# Altium footprint library C.PcbLib: 29 footprints (part 1 of 2)
Each footprint in its own frame and in the unit in brackets; x right, y up, seen from the top. Pads: shape width x height; smd on the part's side, far side on the other; paste and mask are expansions set on the pad; w line width, h text height; cw(c..) or ccw(c..) is an arc to the next point about the centre after c.
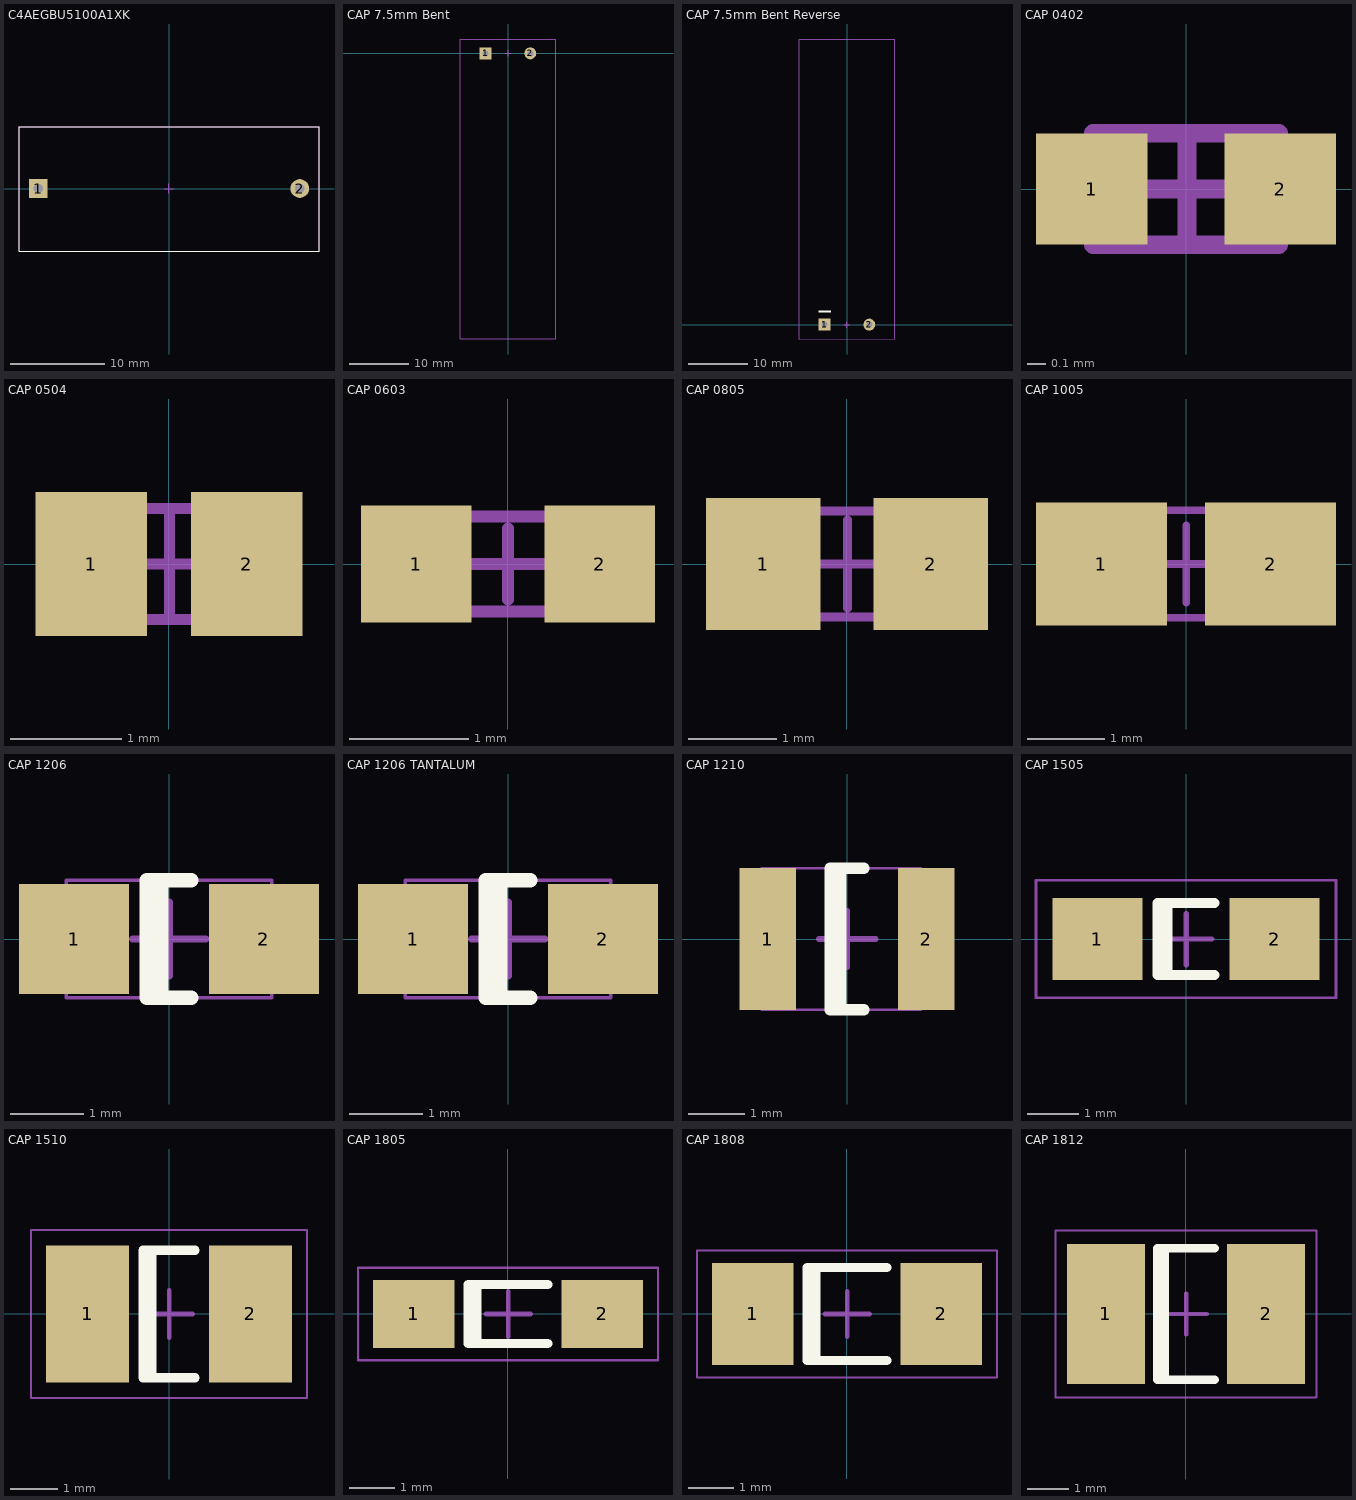
[diagram p0: the footprints below, top view; thin cyan lines are the x and y axes]

## C4AEGBU5100A1XK [mm] "Electrolytic Capacitor, 7.5mm Lead Spacing, 0.6mm Holes"
height 3.18
pads (2):
  rect 2x2 hole 1: 1(-13.95,0)
  round 2 hole 1: 2(13.95,0)
Top Overlay:
  lines w0.05: -16,-6.7 16,-6.7 16,6.6 -16,6.6 -16,-6.7
Mechanical 3:
  text ".Designator" at 0.4,0.5 h0.5
Mechanical 15:
  lines w0.05: -16,-6.7 16,-6.7 16,6.6 -16,6.6 -16,-6.7
  lines w0.1: -0.506,0 0.494,0 ; -0.006,-0.5 -0.006,0.5
3D body "C4AEGBU5100A1XK.step": height 25.2, standoff -4, extent -16,-6.7 16,6.605

## CAP 7.5mm Bent [mm] "Electrolytic Capacitor, 7.5mm Lead Spacing, 0.6mm Holes"
height 3.18
pads (2):
  rect 2x2 hole 1: 1(-3.75,0)
  round 2 hole 1: 2(3.75,0)
Mechanical 3:
  text ".Designator" at -4.699,2.794 h0.5
Mechanical 15:
  lines w0.05: -8,-48 -8,2.413 8,2.413 8,-48 -8,-48
  lines w0.1: -0.495,0 0.505,0 ; 0.005,-0.5 0.005,0.5
3D body "800ELL122MM40S.step": height 18, standoff -1.05, extent -8,-45 8,0.611

## CAP 7.5mm Bent Reverse [mm] "Electrolytic Capacitor, 7.5mm Lead Spacing, 0.6mm Holes"
height 3.18
pads (2):
  rect 2x2 hole 1: 1(-3.75,0)
  round 2 hole 1: 2(3.75,0)
Top Overlay:
  rectangle: -4.8,2 -2.7,2.4
Mechanical 3:
  text ".Designator" at 4.699,-2.794 h0.5
Mechanical 15:
  lines w0.05: -8,-2.413 8,-2.413 8,48 -8,48 -8,-2.413
  lines w0.1: -0.506,0 0.494,0 ; -0.006,-0.5 -0.006,0.5
3D body "800ELL122MM40S.step": height 18, standoff -1.05, extent -8,-0.611 8,45

## CAP 0402 [mm] "Chip Capacitor; Body 1.0 x 0.5 mm (LxW typ)"
height 0.6
pads (2):
  rect 0.6x0.6 smd: 1(-0.508,0) 2(0.508,0)
Mechanical 3:
  text ".Designator" at -0.8,0.5 h0.5
Mechanical 15:
  lines w0.1: -0.254,0 0.254,0 ; 0.005,-0.254 0.005,0.254 ; -0.5,-0.3 0.5,-0.3 0.5,0.3 -0.5,0.3 -0.5,-0.3
3D body "CAP0402.stp": height 0.2, standoff 0, extent -0.5,-0.3 0.5,0.3

## CAP 0504 [mm] "Chip Capacitor; Body 1.2 x 1.0 mm (LxW typ)"
height 1.02
pads (2):
  rect 1x1.3 smd: 1(-0.7,0) 2(0.7,0)
Mechanical 3:
  text ".Designator" at -1.1,0.9 h0.5
Mechanical 15:
  lines w0.1: -0.495,0 0.505,0 ; 0.005,-0.5 0.005,0.5 ; -0.7,-0.5 -0.7,0.5 0.7,0.5 0.7,-0.5 -0.7,-0.5
3D body: height 1, standoff 0, extent -1.016,-0.508 -0.635,0.508
3D body: height 1, standoff 0, extent -0.635,-0.508 0.65,0.508
3D body: height 1, standoff 0, extent 0.612,-0.508 1.016,0.508

## CAP 0603 [mm] "Chip Capacitor; Body 1.6 x 0.8 mm (LxW typ)"
height 0.85
pads (2):
  rect 0.93x0.98 smd: 1(-0.77,0) 2(0.77,0)
Mechanical 3:
  text ".designator" at -1.2,0.7 h0.5
Mechanical 15:
  lines w0.1: -0.381,0 0.381,0 ; 0,-0.3 0,0.3 ; -0.77,-0.4 0.77,-0.4 0.77,0.4 -0.77,0.4 -0.77,-0.4
3D body "CAP0603.stp": height 0.3, standoff 0, extent -0.8,-0.4 0.8,0.4

## CAP 0805 [mm] "Chip Capacitor; Body 2.0 x 1.2 mm (LxW typ)"
height 1.1
pads (2):
  rect 1.3x1.5 smd: 1(-0.95,0) 2(0.95,0)
Mechanical 3:
  text ".Designator" at -1.1,0.9 h0.5
Mechanical 15:
  lines w0.1: -0.495,0 0.505,0 ; 0.005,-0.5 0.005,0.5 ; -1,-0.6 -1,0.6 1,0.6 1,-0.6 -1,-0.6
3D body "CAP0805.stp": height 0.78, standoff 0, extent -1.05,-0.625 0.95,0.625

## CAP 1005 [mm] "Chip Capacitor; Body 2.54 x 1.27 mm (LxW typ)"
height 1.66
pads (2):
  rect 1.7x1.6 smd: 1(-1.1,0) 2(1.1,0)
Mechanical 3:
  text ".Designator" at -1.84,1.097 h0.5
Mechanical 15:
  lines w0.1: -0.495,0 0.505,0 ; 0.005,-0.5 0.005,0.5 ; -1.2,-0.7 1.2,-0.7 1.2,0.7 -1.2,0.7 -1.2,-0.7
3D body: height 1, standoff 0, extent 1.016,-0.635 1.651,0.635
3D body: height 1, standoff 0, extent -1.1,-0.635 1.016,0.635
3D body: height 1, standoff 0, extent -1.651,-0.635 -1.1,0.635

## CAP 1206 [mm] "Chip Capacitor; Body 3.2 x 1.6 mm (LxW typ)"
height 1.35
pads (2):
  rect 1.5x1.5 smd: 1(-1.295,0) 2(1.295,0)
Top Overlay:
  lines w0.2: -0.11,-0.8 -0.11,0.8 ; 0.3,-0.8 -0.3,-0.8 -0.3,0.8 0.3,0.8
Mechanical 3:
  text ".Designator" at -2.54,1.524 h0.5
Mechanical 15:
  lines w0.05: -1.4,-0.8 -1.4,0.8 1.4,0.8 1.4,-0.8 -1.4,-0.8
  lines w0.1: -0.495,0 0.505,0 ; 0.005,-0.5 0.005,0.5
3D body "CAP1206.stp": height 1, standoff 0, extent -1.6,-0.8 1.6,0.8

## CAP 1206 TANTALUM [mm] "Chip Capacitor; Body 3.2 x 1.6 mm (LxW typ)"
height 1.35
pads (2):
  rect 1.5x1.5 smd: 1(-1.295,0) 2(1.295,0)
Top Overlay:
  lines w0.2: -0.11,-0.8 -0.11,0.8 ; 0.3,-0.8 -0.3,-0.8 -0.3,0.8 0.3,0.8
Mechanical 3:
  text ".Designator" at -2.54,1.524 h0.5
Mechanical 15:
  lines w0.05: -1.4,-0.8 -1.4,0.8 1.4,0.8 1.4,-0.8 -1.4,-0.8
  lines w0.1: -0.495,0 0.505,0 ; 0.005,-0.5 0.005,0.5
3D body "tantalum 10uF.stp": height 1.6, standoff -0.1, extent -1.7,-0.8 1.7,0.8

## CAP 1210 [mm] "Chip Capacitor; Body 3.2 x 2.5 mm (LxW typ)"
height 1.35
pads (2):
  rect 1x2.5 smd: 1(-1.4,0) 2(1.4,0)
Top Overlay:
  lines w0.2: -0.11,-1.25 -0.11,1.25 ; 0.3,-1.25 -0.3,-1.25 -0.3,1.25 0.3,1.25
Mechanical 3:
  text ".Designator" at -0.2,1.6 h0.5
Mechanical 15:
  lines w0.05: -1.5,-1.25 1.3,-1.25 1.3,1.25 -1.5,1.25 -1.5,-1.25
  lines w0.1: -0.495,0 0.505,0 ; 0.005,-0.5 0.005,0.5
3D body "CAP1210.stp": height 0.92, standoff -0.02, extent -1.6,-1.25 1.6,1.25

## CAP 1505 [mm] "Chip Capacitor; Body 3.81 x 1.27 mm (LxW typ)"
height 1.66
pads (2):
  rect 1.75x1.6 smd: 1(-1.725,0) 2(1.725,0)
Top Overlay:
  lines w0.2: -0.36,-0.7 -0.36,0.7 ; 0.55,-0.7 -0.55,-0.7 -0.55,0.7 0.55,0.7
Mechanical 3:
  text ".Designator" at -2.921,1.524 h0.5
Mechanical 15:
  lines w0.05: -2.921,-1.143 -2.921,1.143 2.921,1.143 2.921,-1.143 -2.921,-1.143
  lines w0.1: -0.495,0 0.505,0 ; 0.005,-0.5 0.005,0.5
3D body: height 1, standoff 0, extent -2.35,-0.635 -1.651,0.635
3D body: height 1, standoff 0, extent -1.651,-0.635 1.651,0.635
3D body: height 1, standoff 0, extent 1.587,-0.635 2.222,0.635

## CAP 1510 [mm] "Chip Capacitor; Body 3.81 x 2.54 mm (LxW typ)"
height 1.66
pads (2):
  rect 1.75x2.9 smd: 1(-1.725,0) 2(1.725,0)
Top Overlay:
  lines w0.2: -0.36,-1.35 -0.36,1.35 ; 0.55,-1.35 -0.55,-1.35 -0.55,1.35 0.55,1.35
Mechanical 3:
  text ".Designator" at -2.921,2.159 h0.5
Mechanical 15:
  lines w0.05: -2.921,-1.778 2.921,-1.778 2.921,1.778 -2.921,1.778 -2.921,-1.778
  lines w0.1: -0.495,0 0.505,0 ; 0.005,-0.5 0.005,0.5
3D body: height 1, standoff 0, extent 1.27,-1.143 2.286,1.143
3D body: height 1, standoff 0, extent -1.27,-1.143 1.27,1.143
3D body: height 1, standoff 0, extent -2.286,-1.143 -1.27,1.143

## CAP 1805 [mm] "Chip Capacitor; Body 4.5 x 1.3 mm (LxW typ)"
height 1.4
pads (2):
  rect 1.8x1.5 smd: 1(-2.075,0) 2(2.075,0)
Top Overlay:
  lines w0.2: -0.685,-0.65 -0.685,0.65 ; 0.875,-0.65 -0.875,-0.65 -0.875,0.65 0.875,0.65
Mechanical 3:
  text ".Designator" at -3.302,1.397 h0.5
Mechanical 15:
  lines w0.05: -1.587,1.016 -3.302,1.016 -3.302,-1.016 3.302,-1.016 3.302,1.016 1.587,1.016 -1.587,1.016 ; -1.587,1.016 -1.587,1.016
  lines w0.1: -0.495,0 0.505,0 ; 0.005,-0.5 0.005,0.5
3D body: height 1, standoff 0, extent 1.27,-0.762 2.54,0.762
3D body: height 1, standoff 0, extent -1.27,-0.762 1.27,0.762
3D body: height 1, standoff 0, extent -2.476,-0.762 -1.27,0.762

## CAP 1808 [mm] "Chip Capacitor; Body 4.5 x 2.0 mm (LxW typ)"
height 2.03
pads (2):
  rect 1.8x2.25 smd: 1(-2.075,0) 2(2.075,0)
Top Overlay:
  lines w0.2: -0.685,-1.025 -0.685,1.025 ; 0.875,-1.025 -0.875,-1.025 -0.875,1.025 0.875,1.025
Mechanical 3:
  text ".Designator" at -3.302,1.778 h0.5
Mechanical 15:
  lines w0.05: -3.302,-1.397 -3.302,1.397 3.302,1.397 3.302,-1.397 -3.302,-1.397
  lines w0.1: -0.495,0 0.505,0 ; 0.005,-0.5 0.005,0.5
3D body: height 1, standoff 0, extent -2.476,-1.016 -1.27,1.016
3D body: height 1, standoff 0, extent -1.27,-1.016 1.27,1.016
3D body: height 1, standoff 0, extent 1.27,-1.016 2.54,1.016

## CAP 1812 [mm] "Chip Capacitor; Body 4.5 x 3.2 mm (LxW typ)"
height 1.35
pads (2):
  rect 1.9x3.4 smd: 1(-1.95,0) 2(1.95,0)
Top Overlay:
  lines w0.2: -0.51,-1.6 -0.51,1.6 ; 0.7,-1.6 -0.7,-1.6 -0.7,1.6 0.7,1.6
Mechanical 3:
  text ".Designator" at -3.175,2.413 h0.5
Mechanical 15:
  lines w0.05: -3.175,-2.032 3.175,-2.032 3.175,2.032 -3.175,2.032 -3.175,-2.032
  lines w0.1: -0.495,0 0.505,0 ; 0.005,-0.5 0.005,0.5
3D body: height 1, standoff 0, extent 1.27,-1.524 2.54,1.524
3D body: height 1, standoff 0, extent -1.27,-1.524 1.27,1.524
3D body: height 1, standoff 0, extent -2.476,-1.524 -1.27,1.524